# EAGLE library part THEO-P173-01A (library ubloxLib)
THEO-P173-01A: 802.11p 5.9GHz dual radio module u-blox.com
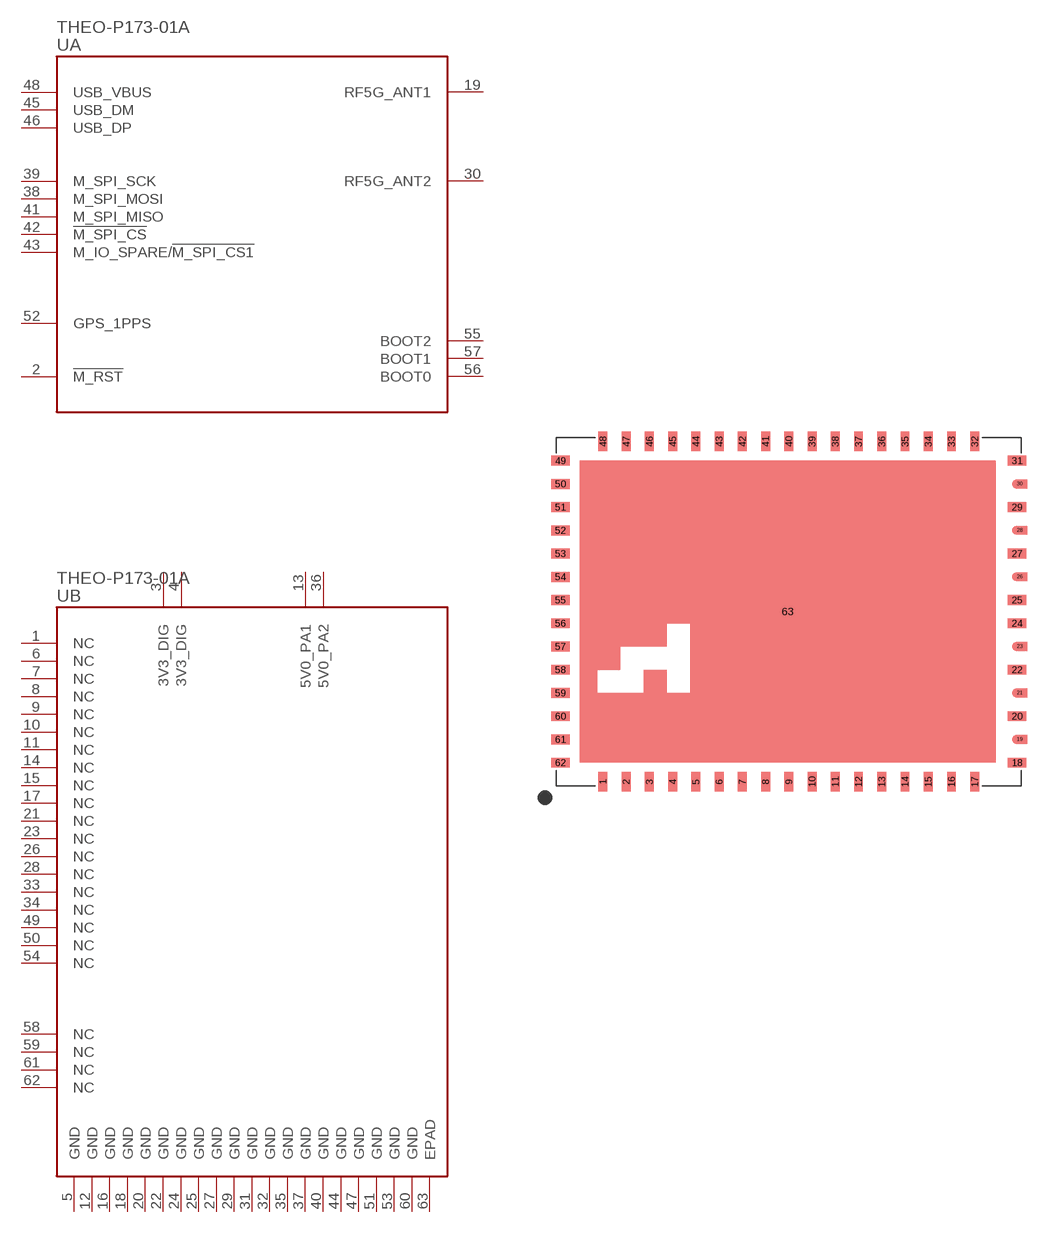
[diagram p12: symbol with the pads of THEO-P173-01A; footprint THEO-P173-01A]

Designator prefix -; gates A=THEO-P1A B=THEO-P1B

## THEO-P173-01A  [THEO-P173-01A]
1  B:NC  nc
2  A:!M_RST
3  B:3V3_DIG  pwr
4  B:3V3_DIG  pwr
5  B:GND  pwr
6  B:NC  nc
7  B:NC  nc
8  B:NC  nc
9  B:NC  nc
10  B:NC  nc
11  B:NC  nc
12  B:GND  pwr
13  B:5V0_PA1  pwr
14  B:NC  nc
15  B:NC  nc
16  B:GND  pwr
17  B:NC  nc
18  B:GND  pwr
19  A:RF5G_ANT1
20  B:GND  pwr
21  B:NC  nc
22  B:GND  pwr
23  B:NC  nc
24  B:GND  pwr
25  B:GND  pwr
26  B:NC  nc
27  B:GND  pwr
28  B:NC  nc
29  B:GND  pwr
30  A:RF5G_ANT2
31  B:GND  pwr
32  B:GND  pwr
33  B:NC  nc
34  B:NC  nc
35  B:GND  pwr
36  B:5V0_PA2  pwr
37  B:GND  pwr
38  A:M_SPI_MOSI
39  A:M_SPI_SCK
40  B:GND  pwr
41  A:M_SPI_MISO
42  A:!M_SPI_CS
43  A:M_IO_SPARE/!M_SPI_CS1
44  B:GND  pwr
45  A:USB_DM
46  A:USB_DP
47  B:GND  pwr
48  A:USB_VBUS
49  B:NC  nc
50  B:NC  nc
51  B:GND  pwr
52  A:GPS_1PPS
53  B:GND  pwr
54  B:NC  nc
55  A:BOOT2  in
56  A:BOOT0  in
57  A:BOOT1  in
58  B:NC  nc
59  B:NC  nc
60  B:GND  pwr
61  B:NC  nc
62  B:NC  nc
63  B:EPAD  pwr

## Footprint THEO-P173-01A (pad centres in mm)
THEO-P173-01A: Castellated Package 63 Pin u-blox.com
smd 0.87 x 1.7: 1 -16,-14.65; 2 -14,-14.65; 3 -12,-14.65; 4 -10,-14.65; 5 -8,-14.65; 6 -6,-14.65; 7 -4,-14.65; 8 -2,-14.65; 9 0,-14.65; 10 2,-14.65; 11 4,-14.65; 12 6,-14.65; 13 8,-14.65; 14 10,-14.65; 15 12,-14.65; 16 14,-14.65; 17 16,-14.65; 32 16,14.65; 33 14,14.65; 34 12,14.65; 35 10,14.65; 36 8,14.65; 37 6,14.65; 38 4,14.65; 39 2,14.65; 40 0,14.65; 41 -2,14.65; 42 -4,14.65; 43 -6,14.65; 44 -8,14.65; 45 -10,14.65; 46 -12,14.65; 47 -14,14.65; 48 -16,14.65
smd 1.7 x 0.87: 18 19.65,-13; 20 19.65,-9; 22 19.65,-5; 24 19.65,-1; 25 19.65,1; 27 19.65,5; 29 19.65,9; 31 19.65,13; 49 -19.65,13; 50 -19.65,11; 51 -19.65,9; 52 -19.65,7; 53 -19.65,5; 54 -19.65,3; 55 -19.65,1; 56 -19.65,-1; 57 -19.65,-3; 58 -19.65,-5; 59 -19.65,-7; 60 -19.65,-9; 61 -19.65,-11; 62 -19.65,-13
smd 0.5 x 0.5: 19 19.86,-11; 21 19.86,-7; 23 19.86,-3; 26 19.86,3; 28 19.86,7; 30 19.86,11
smd 1 x 1: 63 -0.1,0